# Altium footprint library 器件封装.PCBLIB: 225 footprints (part 10 of 15)
Each footprint in its own frame and in the unit in brackets; x right, y up, seen from the top. Pads: shape width x height; smd on the part's side, far side on the other; paste and mask are expansions set on the pad; w line width, h text height; cw(c..) or ccw(c..) is an arc to the next point about the centre after c.
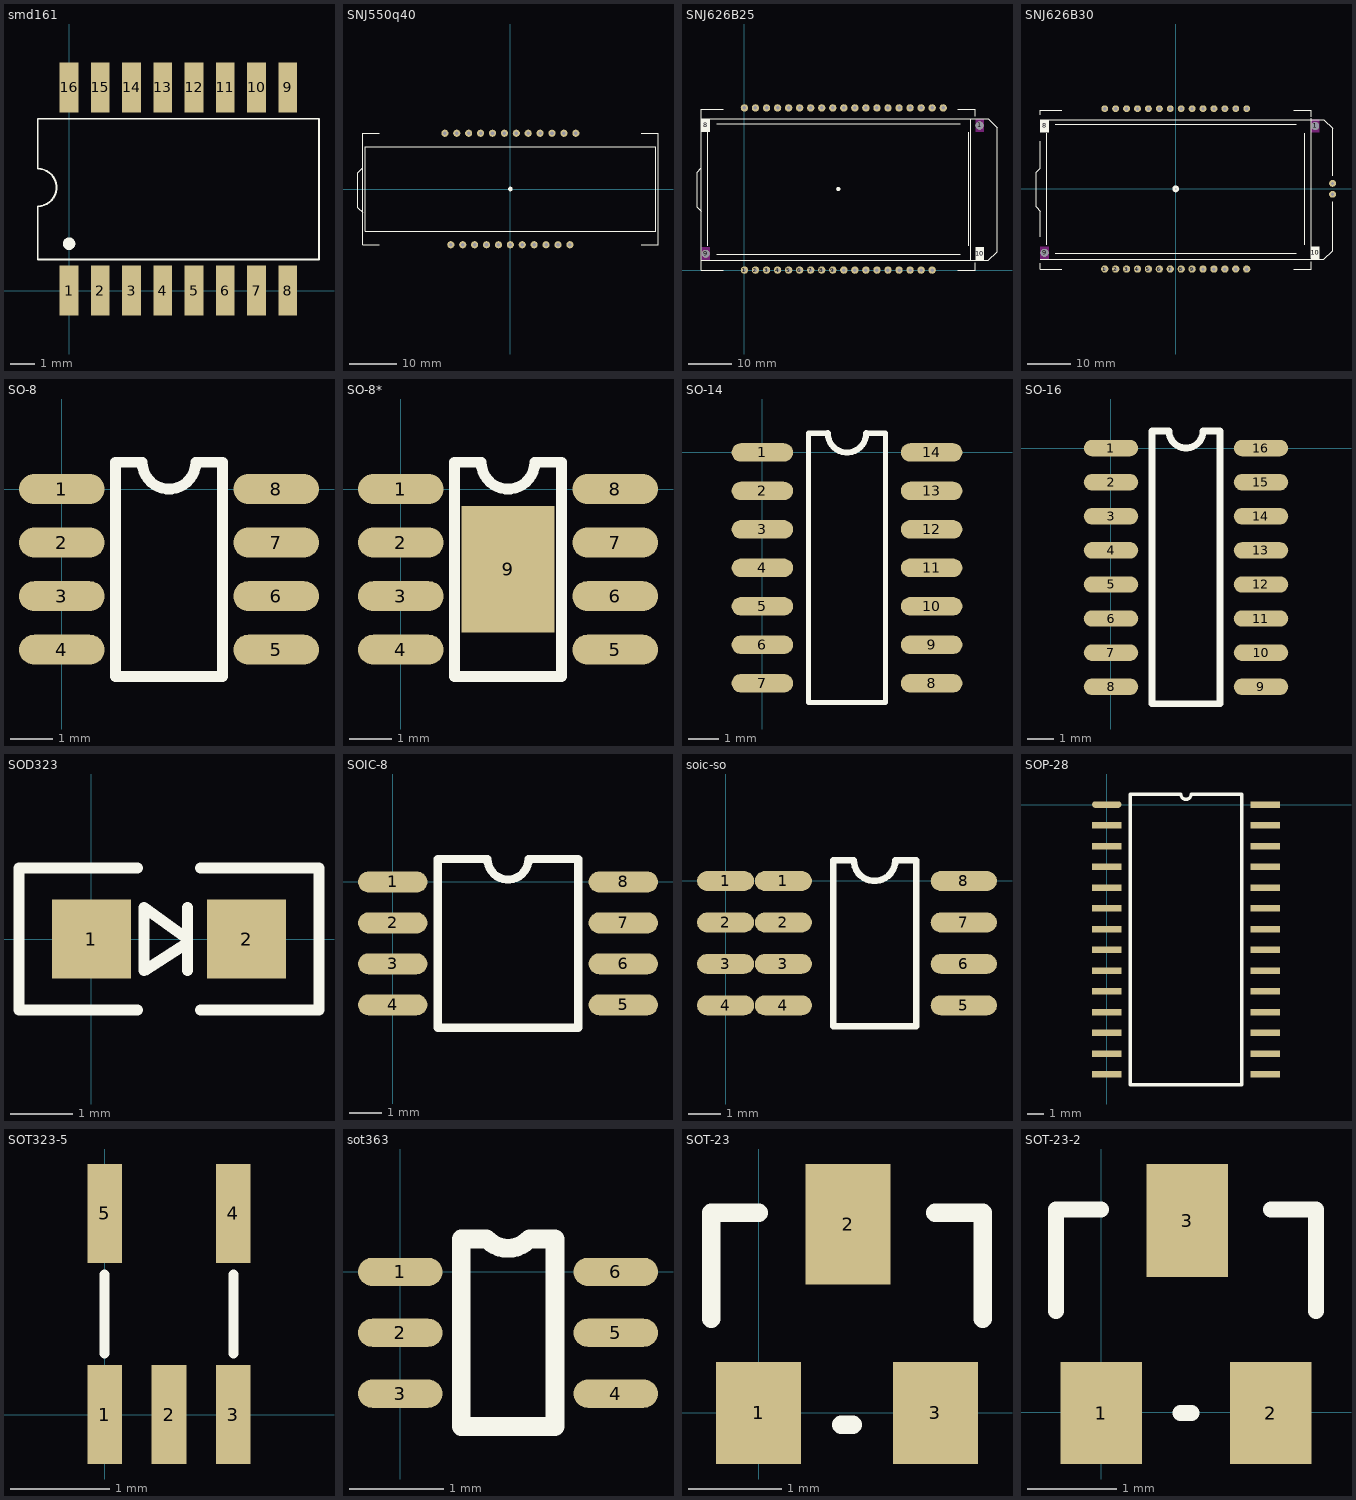
[diagram p9: the footprints below, top view; thin cyan lines are the x and y axes]

## smd161 [mil]
pads (16):
  rect 30x80 smd: 1(0,0) 2(50,0) 3(100,0) 4(150,0) 5(200,0) 6(250,0) 7(300,0) 8(350,0) 9(350,325) 10(300,325) 11(250,325) 12(200,325) 13(150,325) 14(100,325) 15(50,325) 16(0,325)
TopOverlay:
  circle w10: c0.08,75 r4.92
  lines w3: -50,50 400,50 400,275 -50,275 -50,195 cw(c-50,165) -50,135 -50,50

## SNJ550q40 [mil]
pads (24):
  round 39.37 on Top Overlay: 0(0,0)
  round 60 hole 30: 1(-500,-468.5) 2(-400,-468.5) 3(-300,-468.5) 4(-200,-468.5) 5(-100,-468.5) 6(0,-468.5) 7(100,-468.5) 8(200,-468.5) 9(300,-468.5) 10(400,-468.5) 11(500,-468.5) 12(550,468.5) 13(450,468.5) 14(350,468.5) 15(250,468.5) 16(150,468.5) 17(50,468.5) 18(-50,468.5) 19(-150,468.5) 20(-250,468.5) 21(-350,468.5) 22(-450,468.5) 23(-550,468.5)
TopOverlay:
  lines w7.87: -1240.16,-196.85 -1279.53,-157.48 -1279.53,137.79 -1240.16,177.16 ; -1100,-468.5 -1240.16,-468.5 -1240.16,468.5 -1100,468.5 ; 1100,-468.5 1240.16,-468.5 1240.16,468.5 1100,468.5 ; -1220.47,-354.33 1220.47,-354.33 1220.47,354.33 -1220.47,354.33 -1220.47,-354.33

## SNJ626B25 [mm]
pads (44):
  round 1 on Top Overlay: 0(21.59,18.65)
  round 1.7 hole 0.8: 1(0,0) 2(2.54,0) 3(5.08,0) 4(7.62,0) 5(10.16,0) 6(12.7,0) 7(15.24,0) 8(17.78,0) 9(20.32,0) 10(22.86,0) 11(25.4,0) 12(27.94,0) 13(30.48,0) 14(33.02,0) 15(35.56,0) 16(38.1,0) 17(40.64,0) 18(43.18,0) 19(45.72,37.3) 20(43.18,37.3) 21(40.64,37.3) 22(38.1,37.3) 23(35.56,37.3) 24(33.02,37.3) 25(30.48,37.3) 26(27.94,37.3) 27(25.4,37.3) 28(22.86,37.3) 29(20.32,37.3) 30(17.78,37.3) 31(15.24,37.3) 32(12.7,37.3) 33(10.16,37.3) 34(7.62,37.3) 35(5.08,37.3) 36(2.54,37.3) 37(0,37.3)
  rect 2x3 on Keep-Out: 1(54.094,33.262) 9(-8.906,3.762)
  rect 2x3 on Top Overlay: 8(-8.906,33.262) 10(54.094,3.762)
  round 1.8 hole 1.8: ""(-8.906,3.762) ""(54.094,33.262)
TopOverlay:
  lines w0.254: -9.91,13.5 -10.91,14.5 -10.91,22.5 -9.91,23.5 ; -9.906,2.262 56.094,2.262 58.094,4.262 58.094,32.762 56.094,34.762 -9.906,34.762 ; -8.41,5.65 -8.41,31.65 ; -6.41,3.65 49.59,3.65 ; -6.41,33.65 49.59,33.65 ; -4.91,0 -9.91,0 -9.91,37 -4.91,37 ; 49.09,0 53.09,0 53.09,1.724 ; 49.09,37 53.09,37 53.09,35.42 ; 51.59,5.65 51.59,31.65 ; 52.09,2.262 52.09,34.75

## SNJ626B30 [mm]
pads (37):
  round 1.6 on Top Overlay hole 0.2: 0(0.01,-0.01)
  round 1.7 hole 0.8: 1(-16.5,-18.66) 2(-13.96,-18.66) 3(-11.42,-18.66) 4(-8.88,-18.66) 5(-6.34,-18.66) 6(-3.8,-18.66) 7(-1.26,-18.66) 8(1.28,-18.66) 9(3.82,-18.66) 10(6.36,-18.66) 11(8.9,-18.66) 12(11.44,-18.66) 13(13.98,-18.66) 14(16.52,-18.66)
  rect 2x3 on Keep-Out: 1(32.494,14.627) 9(-30.506,-14.873)
  rect 2x3 on Top Overlay: 8(-30.506,14.627) 10(32.494,-14.873)
  round 1.6 hole 0.762: 15(16.52,18.64) 16(13.98,18.64) 17(11.44,18.64) 18(8.9,18.64) 19(6.36,18.64) 20(3.82,18.64) 21(1.28,18.64) 22(-1.26,18.64) 23(-3.8,18.64) 24(-6.34,18.64) 25(-8.88,18.64) 26(-11.42,18.64) 27(-13.96,18.64) 28(-16.5,18.64) 29(36.494,-1.27) 30(36.494,1.27)
  round 1.8 hole 1.8: ""(-30.506,-14.873) ""(32.494,14.627)
TopOverlay:
  lines w0.254: -31.506,-16.373 34.494,-16.373 36.494,-14.373 36.494,-2.99 ; -31.49,-17.31 -31.49,-18.66 -26.49,-18.66 ; -31.49,-11.15 -31.49,-5.16 -32.49,-4.16 -32.49,3.84 -31.49,4.84 -31.49,11.12 ; -31.49,17.25 -31.49,18.34 -26.49,18.34 ; -31.41,16.127 34.494,16.127 36.494,14.127 36.494,3 ; -29.99,-13.01 -29.99,12.99 ; -27.99,-15.01 28.01,-15.01 ; -27.99,14.99 28.01,14.99 ; 27.51,-18.66 31.51,-18.66 31.51,-16.936 ; 27.51,18.34 31.51,18.34 31.51,16.76 ; 30.01,-13.01 30.01,12.99 ; 31.506,-16.115 31.506,16.373

## SO-8 [mil]
pads (8):
  oval 80x28 smd: 1(0,0) 2(0,-50) 3(0,-100) 4(0,-150) 5(200,-150) 6(200,-100) 7(200,-50) 8(200,0)
TopOverlay:
  lines w10: 72,25 50,25 50,-175 150,-175 150,25 125,25 cw(c100,25) 75,25

## SO-8* [mil]
pads (9):
  oval 80x28 smd: 1(0,0) 2(0,-50) 3(0,-100) 4(0,-150) 5(200,-150) 6(200,-100) 7(200,-50) 8(200,0)
  rect 86.61x118.11 smd: 9(100,-75)
TopOverlay:
  lines w10: 72,25 50,25 50,-175 150,-175 150,25 125,25 cw(c100,25) 75,25

## SO-14 [mil]
pads (14):
  oval 80x24 smd: 1(0,0) 2(0,-50) 3(0,-100) 4(0,-150) 5(0,-200) 6(0,-250) 7(0,-300) 8(220,-300) 9(220,-250) 10(220,-200) 11(220,-150) 12(220,-100) 13(220,-50) 14(220,0)
TopOverlay:
  lines w6.69: 85,25 60,25 60,-325 160,-325 160,25 135,25
  lines w7.87: 85,25 ccw(c110,25) 135,25

## SO-16 [mil]
pads (16):
  oval 80x24 smd: 1(0,0) 2(0,-50) 3(0,-100) 4(0,-150) 5(0,-200) 6(0,-250) 7(0,-300) 8(0,-350) 9(220,-350) 10(220,-300) 11(220,-250) 12(220,-200) 13(220,-150) 14(220,-100) 15(220,-50) 16(220,0)
TopOverlay:
  lines w10: 60,-375 60,25 85,25 ccw(c110,25) 135,25 160,25 160,-375 60,-375

## SOD323 [mm]
pads (2):
  rect 1.27x1.27 smd: 1(0,0) 2(2.5,0)
TopOverlay:
  lines w0.18: 0.742,-1.143 -1.163,-1.143 -1.163,1.143 0.742,1.143 ; 1.55,-0.508 1.55,0.508 ; 1.758,-1.143 3.663,-1.143 3.663,1.143 1.758,1.143 ; 0.85,-0.508 1.55,-0.062 1.55,0 0.85,0.508 0.85,-0.508

## SOIC-8 [mm]
pads (8):
  oval 2.15x0.65 smd: 1(0,0) 2(0,-1.27) 3(0,-2.54) 4(0,-3.81) 5(7.15,-3.81) 6(7.15,-2.54) 7(7.15,-1.27) 8(7.15,0)
TopOverlay:
  lines w0.254: 1.4,-4.52 5.75,-4.52 5.75,0.71 4.21,0.71 cw(c3.575,0.71) 2.94,0.71 1.4,0.71 1.4,-4.52

## soic-so [mil]
pads (12):
  oval 68.9x24 smd: 1(0,0) 1(69.72,0) 2(0,-50) 2(69.72,-50) 3(0,-100) 3(69.72,-100) 4(0,-150) 4(69.72,-150)
  oval 80x24 smd: 5(287.4,-150) 6(287.4,-100) 7(287.4,-50) 8(287.4,0)
TopOverlay:
  lines w7.87: 129.72,-175 229.72,-175 229.72,25 204.72,25 cw(c179.72,25) 154.72,25 129.72,25 129.72,-175

## SOP-28 [mm]
pads (28):
  oval 1.8x0.4 smd: 1(0,0)
  rect 1.8x0.4 smd: 2(0,-1.27) 3(0,-2.54) 4(0,-3.81) 5(0,-5.08) 6(0,-6.35) 7(0,-7.62) 8(0,-8.89) 9(0,-10.16) 10(0,-11.43) 11(0,-12.7) 12(0,-13.97) 13(0,-15.24) 14(0,-16.51) 15(9.7,-16.51) 16(9.7,-15.24) 17(9.7,-13.97) 18(9.7,-12.7) 19(9.7,-11.43) 20(9.7,-10.16) 21(9.7,-8.89) 22(9.7,-7.62) 23(9.7,-6.35) 24(9.7,-5.08) 25(9.7,-3.81) 26(9.7,-2.54) 27(9.7,-1.27) 28(9.7,0)
TopOverlay:
  lines w0.2: 1.435,-17.145 1.435,0.635 4.533,0.635 ccw(c4.85,0.635) 5.168,0.635 8.265,0.635 8.265,-17.145 1.435,-17.145

## SOT323-5 [mm]
pads (5):
  rect 0.35x1 smd: 1(0,0) 2(0.65,0) 3(1.3,0) 4(1.3,2.032) 5(0,2.032)
TopOverlay:
  lines w0.102: 0,0.616 0,1.416 ; 1.3,0.616 1.3,1.416

## sot363 [mm]
pads (6):
  oval 0.9x0.3 smd: 1(0,0) 2(0,-0.65) 3(0,-1.3) 4(2.3,-1.3) 5(2.3,-0.65) 6(2.3,0)
TopOverlay:
  lines w0.2: 0.92,0.35 0.65,0.35 0.65,-1.65 1.65,-1.65 1.65,0.35 1.38,0.35 ; 0.938,0.338 ccw(c1.15,0.55) 1.362,0.338

## SOT-23 [mil]
pads (3):
  rect 36x43.31 smd: 1(0,0) 3(75,0)
  rect 36x51.18 smd: 2(38,80)
TopOverlay:
  lines w7.87: -20,40 -20,85 0,85 ; 35,-5 40,-5 ; 75,85 95,85 95,40

## SOT-23-2 [mil]
pads (3):
  rect 36x45 smd: 1(-0.02,-0.37) 2(74.98,-0.37)
  rect 36x50 smd: 3(37.98,84.63)
TopOverlay:
  lines w7.09: -20.02,44.63 -20.02,89.63 -0.02,89.63 ; 34.98,-0.37 39.98,-0.37 ; 74.98,89.63 94.98,89.63 94.98,44.63